# Altium schematic symbol library AD8226ARMZ.SchLib: 1 symbol
Pins are listed as number, name and electrical type; pins without a type are passive.

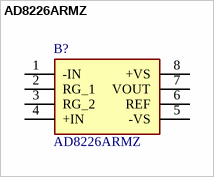
[diagram p0: symbol AD8226ARMZ]

## AD8226ARMZ
designator B?
Wide Supply Range, Rail-to-Rail Output Instrumentation Amplifier; Manufacturer_Name: Analog Devices; Geometry.Height: 1.1mm; Mouser Part Number: 584-AD8226ARMZ; Mouser Price/Stock: https://www.mouser.co.uk/ProductDetail/Analog-Devices/AD8226ARMZ?qs=%2FtpEQrCGXCzt4qnwBCHKiA%3D%3D; Manufacturer_Part_Number: AD8226ARMZ; Datasheet Link: http://www.analog.com/media/en/technical-documentation/data-sheets/AD8226.pdf
footprint SOP65P490X110-8N
pins: 1 -IN, 2 RG_1, 3 RG_2, 4 +IN, 5 -VS, 6 REF, 7 VOUT, 8 +VS